# Altium schematic symbol library Turck FS.Schlib: 1 symbol
Pins are listed as number, name and electrical type; pins without a type are passive.

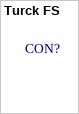
[diagram p0: symbol Turck FS]

## Turck FS
designator CON?  (mechanical)